# EAGLE library part SN65LVDS822 (library glasses)
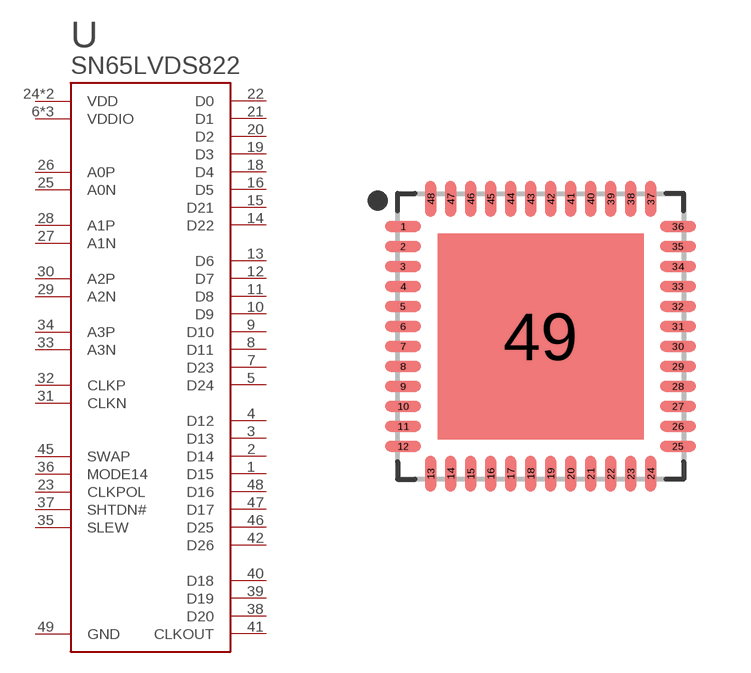
[diagram p5: symbol with the pads of QFN50P700X700X100-49T515; footprint QFN50P700X700X100-49T515]

Designator prefix U

## SN65LVDS822VQFN48  [QFN50P700X700X100-49T515]
1  D15
2  D14
3  D13
4  D12
5  D24
6  VDDIO
7  D23
8  D11
9  D10
10  D9
11  D8
12  D7
13  D6
14  D22
15  D21
16  D5
17  VDDIO
18  D4
19  D3
20  D2
21  D1
22  D0
23  CLKPOL
24  VDD
25  A0N
26  A0P
27  A1N
28  A1P
29  A2N
30  A2P
31  CLKN
32  CLKP
33  A3N
34  A3P
35  SLEW
36  MODE14
37  SHTDN#
38  D20
39  D19
40  D18
41  CLKOUT
42  D26
43  VDDIO
44  VDD
45  SWAP
46  D25
47  D17
48  D16
49  GND

## Footprint QFN50P700X700X100-49T515 (pad centres in mm)
48-QFN, 0.50 mm pitch, 7.00 X 7.00 X 1.00 mm body, 5.15 X 5.15 mm thermal pad 48-pin QFN package with 0.50 mm pitch with body size 7.00 X 7.00 X 1.00 mm and thermal pad size 5.15 X 5.15 mm
smd 0.896 x 0.27: 1 -3.437,2.75; 2 -3.437,2.25; 3 -3.437,1.75; 4 -3.437,1.25; 5 -3.437,0.75; 6 -3.437,0.25; 7 -3.437,-0.25; 8 -3.437,-0.75; 9 -3.437,-1.25; 10 -3.437,-1.75; 11 -3.437,-2.25; 12 -3.437,-2.75; 25 3.437,-2.75; 26 3.437,-2.25; 27 3.437,-1.75; 28 3.437,-1.25; 29 3.437,-0.75; 30 3.437,-0.25; 31 3.437,0.25; 32 3.437,0.75; 33 3.437,1.25; 34 3.437,1.75; 35 3.437,2.25; 36 3.437,2.75
smd 0.27 x 0.896: 13 -2.75,-3.437; 14 -2.25,-3.437; 15 -1.75,-3.437; 16 -1.25,-3.437; 17 -0.75,-3.437; 18 -0.25,-3.437; 19 0.25,-3.437; 20 0.75,-3.437; 21 1.25,-3.437; 22 1.75,-3.437; 23 2.25,-3.437; 24 2.75,-3.437; 37 2.75,3.437; 38 2.25,3.437; 39 1.75,3.437; 40 1.25,3.437; 41 0.75,3.437; 42 0.25,3.437; 43 -0.25,3.437; 44 -0.75,3.437; 45 -1.25,3.437; 46 -1.75,3.437; 47 -2.25,3.437; 48 -2.75,3.437
smd 5.15 x 5.15: 49 0,0